# EAGLE library part PAM2863 (library Andrew-Electrical)
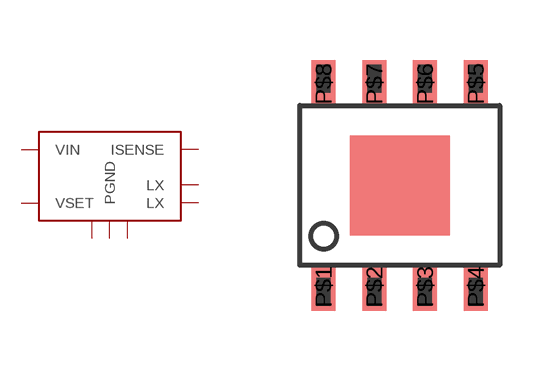
[diagram p5: symbol with the pads of SOP-8EP; footprint SOP-8EP]

Designator prefix -

## PAM2863  [SOP-8EP]
P$1  VIN
P$2  ISENSE
P$3  AGND
P$4  VSET
P$5  LX
P$6  LX
P$7  PGND
P$8  PGND

## Footprint SOP-8EP (pad centres in mm)
smd 0.6 x 1.2: P$1 -1.905,-2.54; P$2 -0.635,-2.54; P$3 0.635,-2.54; P$4 1.905,-2.54; P$5 1.905,2.54; P$6 0.635,2.54; P$7 -0.635,2.54; P$8 -1.905,2.54